# EAGLE library part AD620AN (library AD620AN)
Instrumentation Amplifier 1 Circuit 8-PDIP Check availability <https://pricing.snapeda.com/parts/AD620AN/Analog%20Devices/view-part?ref=eda>
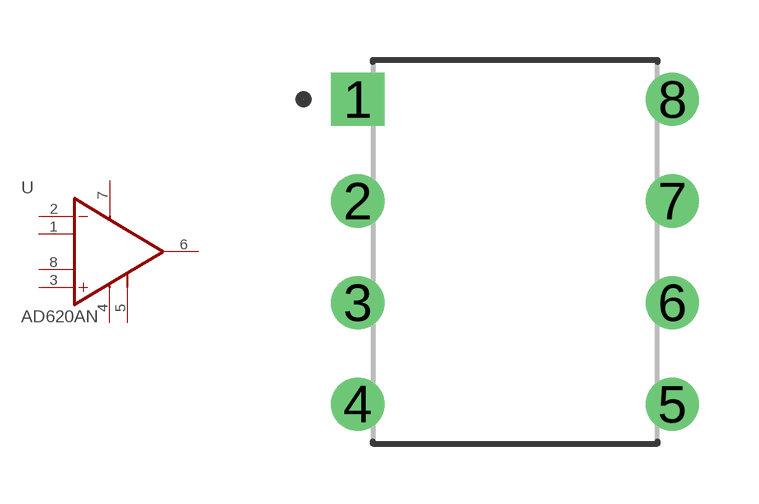
[diagram p0: symbol with the pads of DIP787W46P254L1016H533Q8; footprint DIP787W46P254L1016H533Q8]

Designator prefix U

## AD620AN (Availability: In Stock; Check_prices: https://www.snapeda.com/parts/AD620AN/Analog+Devices/view-part/?ref=eda; Description: Instrumentation Amplifier 1 Circuit - 8-PDIP; MF: Analog Devices; MP: AD620AN; Package: PDIP-8 Linear Technology; Price: None; Purchase-URL: https://www.snapeda.com/api/url_track_click_mouser/?unipart_id=7465&manufacturer=Analog Devices&part_name=AD620AN&search_term=None; SnapEDA_Link: https://www.snapeda.com/parts/AD620AN/Analog+Devices/view-part/?ref=snap)  [DIP787W46P254L1016H533Q8]
1  RG_1  pas
2  -IN  in
3  +IN  in
4  -VS  pwr
5  REF  pwr
6  OUTPUT  out
7  +VS  pwr
8  RG_8  pas

## Footprint DIP787W46P254L1016H533Q8 (pad centres in mm)
drill 0.82 pad 1.23 square: 1 -3.935,3.81
drill 0.82 pad 1.23: 2 -3.935,1.27; 3 -3.935,-1.27; 4 -3.935,-3.81; 5 3.935,-3.81; 6 3.935,-1.27; 7 3.935,1.27; 8 3.935,3.81